# EAGLE library part 879590001 (library MyParts)
1.27mm (.050") Pitch SAS Multi-Lane Plug, Vertical, Through Hole, with Beveled Metal Pins and Plastic Locating Pegs, 32 Circuits, 2.50mm (.098") Tail Length, Lead-free
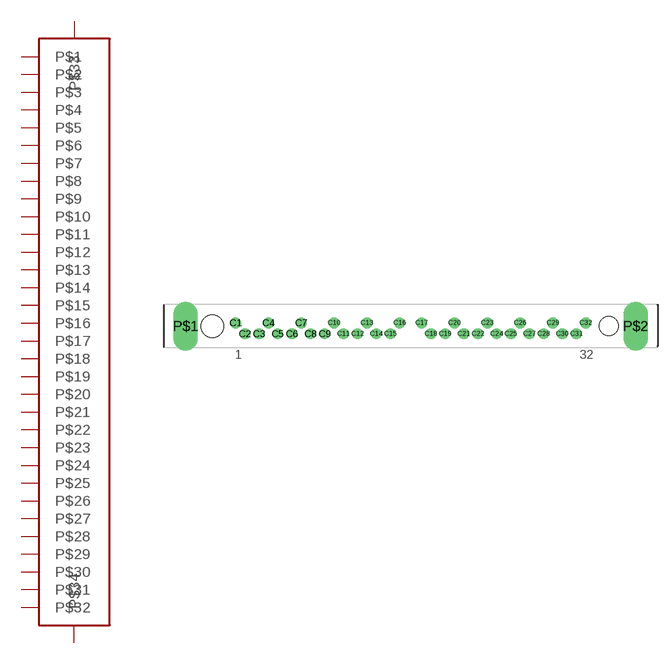
[diagram p1: symbol with the pads of SFF-8484; footprint SFF-8484]

Designator prefix -

## 879590001  [SFF-8484]
C1  P$1  pas
C2  P$2  pas
C3  P$3  pas
C4  P$4  pas
C5  P$5  pas
C6  P$6  pas
C7  P$7  pas
C8  P$8  pas
C9  P$9  pas
C10  P$10  pas
C11  P$11  pas
C12  P$12  pas
C13  P$13  pas
C14  P$14  pas
C15  P$15  pas
C16  P$16  pas
C17  P$17  pas
C18  P$18  pas
C19  P$19  pas
C20  P$20  pas
C21  P$21  pas
C22  P$22  pas
C23  P$23  pas
C24  P$24  pas
C25  P$25  pas
C26  P$26  pas
C27  P$27  pas
C28  P$28  pas
C29  P$29  pas
C30  P$30  pas
C31  P$31  pas
C32  P$32  pas
P$1  P$33  pas
P$2  P$34  pas

## Footprint SFF-8484 (pad centres in mm)
Molex P/N: 0879590001 1.27mm (.050") Pitch SAS Multi-Lane Plug, Vertical, Through Hole, with Beveled Metal Pins and Plastic Locating Pegs, 32 Circuits, 2.50mm (.098") Tail Length, Lead-free
drill 0.75 pad 1.05: C1 8.33,2.935; C2 9.41,1.665; C3 11.06,1.665; C4 12.14,2.935; C5 13.22,1.665; C6 14.87,1.665; C7 15.95,2.935; C8 17.03,1.665; C9 18.68,1.665; C10 19.76,2.935; C11 20.84,1.665; C12 22.49,1.665; C13 23.57,2.935; C14 24.65,1.665; C15 26.3,1.665; C16 27.38,2.935; C17 29.92,2.935; C18 31,1.665; C19 32.65,1.665; C20 33.73,2.935; C21 34.81,1.665; C22 36.46,1.665; C23 37.54,2.935; C24 38.62,1.665; C25 40.27,1.665; C26 41.35,2.935; C27 42.43,1.665; C28 44.08,1.665; C29 45.16,2.935; C30 46.24,1.665; C31 47.89,1.665; C32 48.97,2.935
drill 1.9 pad 1.93 long: P$1 2.535,2.55; P$2 54.765,2.55
hole 2.6 at 5.65,2.55
hole 2.2 at 51.65,2.55